# Altium integrated library S2B-XH-A_LF__SN_.IntLib: 1 symbol
Pins are listed as number, name and electrical type; pins without a type are passive.

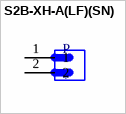
[diagram p0: symbol S2B-XH-A(LF)(SN)]

## S2B-XH-A(LF)(SN)
designator P
Connector Header Through Hole, Right Angle 2 position 0.098 _2.50mm_; MP: S2B-XH-A_LF__SN_; MF: JST Sales; Digi-Key_Part_Number: 455-2257-ND; Package: None; Digi-Key_Purchase_URL: https://www.digikey.com/product-detail/en/jst-sales-america-inc/S2B-XH-A_LF__SN_/455-2257-ND/1651055?utm_source=snapeda&utm_medium=aggregator&utm_campaign=symbol; Value: *; SnapEDA_Link: https://www.snapeda.com/parts/S2B-XH-A%28LF%29%28SN%29/JST%20Sales%20America%20Inc./view-part/46871/?ref=snap
footprint JST_S2B-XH-A(LF)(SN)
pins: 1, 2